# EAGLE library part LM13X00 (library mb3_ota)
Dual OTA with buffers Through Hole: LM13700: http://www.mouser.com/ProductDetail/Texas-Instruments/LM13700N-NOPB/?qs=sGAEpiMZZMtDSiRz%252bYolvD8n5VWKm6dLW3h72fOl2XA%3d LM13600: http://smallbear-electronics.mybigcommerce.com/ic-njm13600d/ Surface Mount: LM13700: http://www.mouser.com/ProductDetail/Texas-Instruments/LM13700MX-NOPB/?qs=sGAEpiMZZMtDSiRz%252bYolvD8n5VWKm6dLlyXbqS8bD%252bg%3d
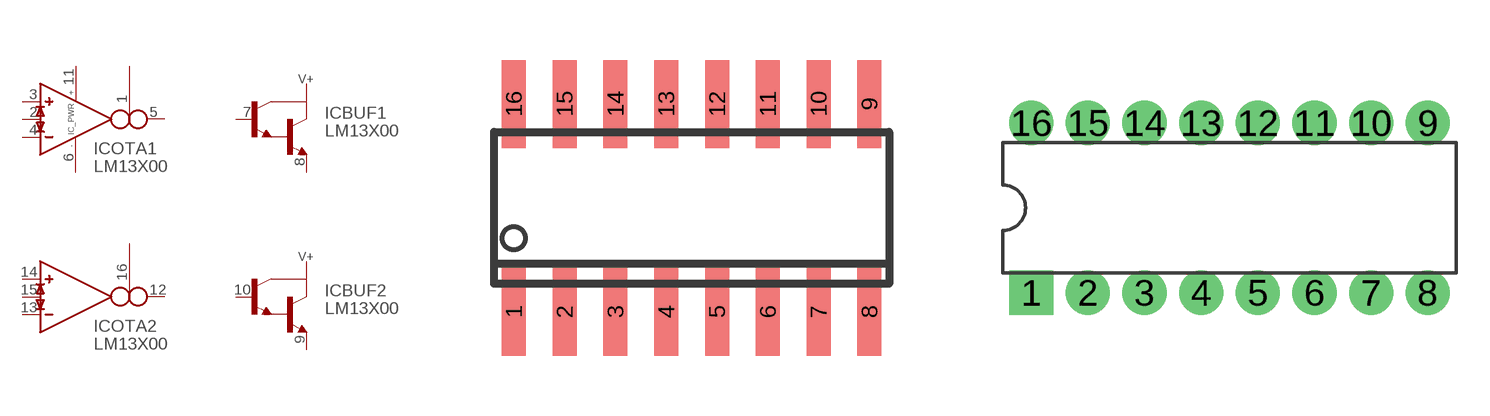
[diagram p0: symbol with the pads of SO16; footprints SO16, DIL16]

Designator prefix IC; gates BUF1=BUF1 BUF2=BUF1 OTA1=OTA_DIODES OTA2=OTA_DIODES _PWR=OTA_SUPPLY

## LM13X00_SMT  [SO16]
1  OTA1:I_BIAS  in
2  OTA1:I_DIODE  in
3  OTA1:IN_P  in
4  OTA1:IN_N  in
5  OTA1:OUT  out
6  _PWR:V-  sup
7  BUF1:B  pas
8  BUF1:E  pas
9  BUF2:E  pas
10  BUF2:B  pas
11  _PWR:V+  sup
12  OTA2:OUT  out
13  OTA2:IN_N  in
14  OTA2:IN_P  in
15  OTA2:I_DIODE  in
16  OTA2:I_BIAS  in

## LM13X00_TH  [DIL16]
Pads as for SO16

## Footprint SO16 (pad centres in mm)
SMALL OUTLINE INTEGRATED CIRCUIT body 3.9 mm/JEDEC MS-012AC
smd 0.6 x 2.2: 1 -4.445,-2.6; 2 -3.175,-2.6; 3 -1.905,-2.6; 4 -0.635,-2.6; 5 0.635,-2.6; 6 1.905,-2.6; 7 3.175,-2.6; 8 4.445,-2.6; 9 4.445,2.6; 10 3.175,2.6; 11 1.905,2.6; 12 0.635,2.6; 13 -0.635,2.6; 14 -1.905,2.6; 15 -3.175,2.6; 16 -4.445,2.6

## Footprint DIL16 (pad centres in mm)
Dual In Line Package
drill 1 pad 1.981 square: 1 -8.89,-3.81
drill 1 pad 1.981: 2 -6.35,-3.81; 3 -3.81,-3.81; 4 -1.27,-3.81; 5 1.27,-3.81; 6 3.81,-3.81; 7 6.35,-3.81; 8 8.89,-3.81; 9 8.89,3.81; 10 6.35,3.81; 11 3.81,3.81; 12 1.27,3.81; 13 -1.27,3.81; 14 -3.81,3.81; 15 -6.35,3.81; 16 -8.89,3.81